# EAGLE library part SSM6N7002KFU,LF (library Transistor)
MOSFET 2N-CH 60V 0.3A Manufacturer's datasheet <https://media.digikey.com/pdf/Data%20Sheets/Toshiba%20PDFs/SSM6N7002KFU.pdf>
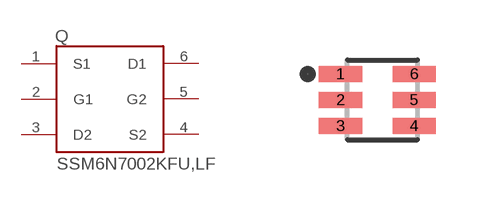
[diagram p0: symbol with the pads of US6; footprint US6]

Designator prefix Q

## SSM6N7002KFU,LF (CREATED_BY: PCBLayout.com; DIGIKEY_PART_NUMBER: SSM6N7002KFULFCT-ND; MANUFACTURER: Toshiba Semiconductor and Storage; MPN: SSM6N7002KFU,LF; PACKAGE: US6)  [US6]
1  S1  pas
2  G1  pas
3  D2  pas
4  S2  pas
5  G2  pas
6  D1  pas

## Footprint US6 (pad centres in mm)
smd 1.08 x 0.4: 1 -0.92,0.65; 2 -0.92,0; 3 -0.92,-0.65; 4 0.92,-0.65; 5 0.92,0; 6 0.92,0.65